# Altium footprint library Arduino_UNO_PCBlib.PcbLib: 27 footprints (part 1 of 2)
Each footprint in its own frame and in the unit in brackets; x right, y up, seen from the top. Pads: shape width x height; smd on the part's side, far side on the other; paste and mask are expansions set on the pad; w line width, h text height; cw(c..) or ccw(c..) is an arc to the next point about the centre after c.
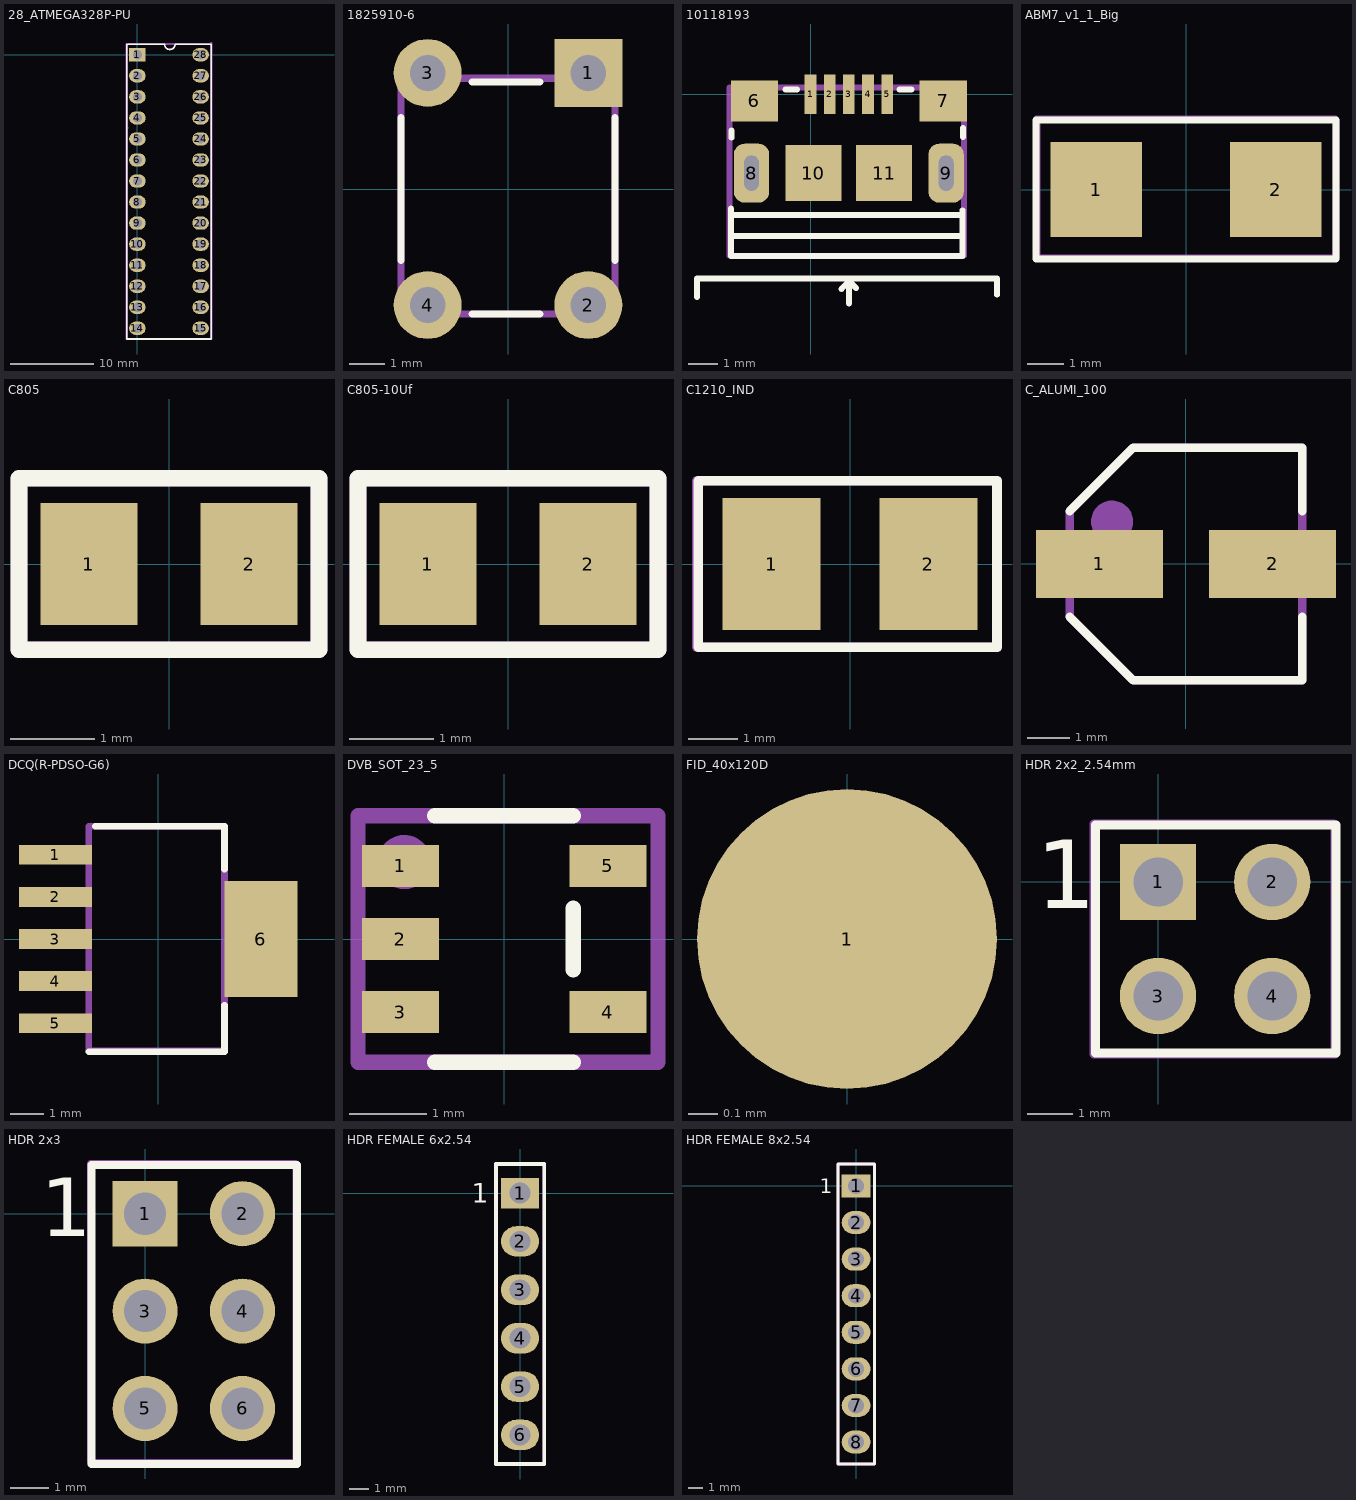
[diagram p0: the footprints below, top view; thin cyan lines are the x and y axes]

## 28_ATMEGA328P-PU [mm]
pads (28):
  rect 2x1.6 hole 1.1: 1(0,0)
  oval 2x1.6 hole 1.1: 2(0,-2.54) 3(0,-5.08) 4(0,-7.62) 5(0,-10.16) 6(0,-12.7) 7(0,-15.24) 8(0,-17.78) 9(0,-20.32) 10(0,-22.86) 11(0,-25.4) 12(0,-27.94) 13(0,-30.48) 14(0,-33.02) 15(7.62,-33.02) 16(7.62,-30.48) 17(7.62,-27.94) 18(7.62,-25.4) 19(7.62,-22.86) 20(7.62,-20.32) 21(7.62,-17.78) 22(7.62,-15.24) 23(7.62,-12.7) 24(7.62,-10.16) 25(7.62,-7.62) 26(7.62,-5.08) 27(7.62,-2.54) 28(7.62,0)
Top Overlay:
  lines w0.2: -1.29,1.27 -1.29,-34.31 8.91,-34.31 8.91,1.27 4.545,1.27 cw(c3.91,1.27) 3.275,1.27 -1.19,1.27
Mechanical 29:
  circle w0.5: c0.01,-0.01 r0.3
  lines w0.254: -1.29,-8.71 -1.19,-8.81 ; 8.91,1.29 8.91,-34.31 -1.29,-34.31 -1.29,1.29 8.81,1.29 8.91,1.39
  text ".Designator" at 3.91,-16.41 h1.52
3D body "User Library-28 pin dip-2.STEP": height 6.85, standoff 0.63, extent -0.127,-34.46 7.747,1.481

## 28_DIP_7.62mm_SOCKET [mm]
3D body "2445626_1-2199298-9.stp": height 5, standoff -3.1, extent -5,-17.805 5,17.755

## 1825910-6 [mm]
pads (4):
  rect 1.9x1.9 hole 1: 1(2.25,3.25)
  round 1.9 hole 1: 2(2.25,-3.25) 3(-2.25,3.25) 4(-2.25,-3.25)
Top Overlay:
  lines w0.2: -3,-2 -3,2 ; -1,-3.5 0.9,-3.5 ; -1,3 0.9,3 ; 3,-2 3,2
Mechanical 29:
  lines w0.2: -2.995,-3.5 2.995,-3.5 2.995,3.1 -2.995,3.1 -2.995,-3.5
  text "'.Designator'" at 0,-0.1 h1.52
3D body "User Library-FSM4JLH(1825910-5).step": height 5, standoff -3.51, extent -2.995,-3.998 2.995,3.8

## 10118193 [mm]
pads (11):
  rect 0.4x1.35 smd mask+0.05: 1(0,0) 2(0.65,0) 3(1.3,0) 4(1.95,0) 5(2.6,0)
  rect 1.6x1.4 smd: 6(-1.9,-0.225) 7(4.5,-0.225)
  rrect60% 1.2x2 hole 0.5 slot 1.2 at 90 deg: 8(-2,-2.675) 9(4.6,-2.675)
  rect 1.9x1.9 smd: 10(0.1,-2.675) 11(2.5,-2.675)
Top Overlay:
  lines w0.2: -3.85,-6.875 -3.85,-6.25 6.325,-6.25 6.325,-6.8 ; -2.7,-4.8 5.1,-4.8 ; -2.7,-4.1 5.132,-4.1 ; -2.7,-3.875 -2.7,-5.478 5.157,-5.478 5.157,-3.932 ; -2.675,-1.475 -2.675,-1.225 ; -0.85,0.161 -0.464,0.161 ; 1.05,-6.6 1.3,-6.35 1.3,-6.25 ; 1.3,-7.1 1.3,-6.25 ; 1.55,-6.575 1.3,-6.325 1.3,-6.25 ; 3.023,0.161 3.425,0.161 ; 5.175,-1.45 5.175,-1.15
Mechanical 29:
  lines w0.2: -2.75,-5.475 -2.75,0.225 5.2,0.225 5.2,-5.475 -2.75,-5.475
  text "'.Designator'" at -0.575,-3 h1.52
3D body "10118193-0001lfc.stp": height 2.81, standoff -0.79, extent -2.678,-5.5 5.178,0.161

## ABM7_v1_1_Big [mm]
pads (2):
  rect 2.5x2.6 smd: 1(-2.45,0) 2(2.45,0)
Top Overlay:
  lines w0.2: -4.1,-1.9 4.1,-1.9 4.1,1.9 -4.1,1.9 -4.1,-1.9
Mechanical 29:
  lines w0.2: -4.08,-1.85 -4.06,-1.87 4.06,-1.87 4.1,-1.83 4.1,1.91 4.08,1.93 -4.08,1.93 -4.08,-1.85
  text ".Designator" at -0.05,-0.02 h1.52
3D body "ABM7.STEP": height 1.41, standoff 0.01, extent -2.907,-1.762 3.087,1.743

## C805 [mm]
pads (2):
  rect 1.15x1.45 smd: 1(-0.95,0) 2(0.95,0)
Top Overlay:
  lines w0.2: -1.778,-1.016 1.778,-1.016 1.778,1.016 -1.778,1.016 -1.778,-1.016
Mechanical 29:
  lines w0.2: -1.778,-1.016 -1.778,1.016 1.778,1.016 1.778,-1.016 -1.778,-1.016
  text ".Designator" at -1.27,-0.254 h0.5
3D body "C0805C105K9PACTU--3DModel-STEP-267191.STEP": height 1.01, standoff 0.01, extent -1.1,-0.725 1.1,0.725

## C805-10Uf [mm]
pads (2):
  rect 1.15x1.45 smd: 1(-0.95,0) 2(0.95,0)
Top Overlay:
  lines w0.2: -1.778,-1.016 1.778,-1.016 1.778,1.016 -1.778,1.016 -1.778,-1.016
Mechanical 29:
  lines w0.2: -1.778,-1.016 -1.778,1.016 1.778,1.016 1.778,-1.016 -1.778,-1.016
  text ".Designator" at -1.27,-0.254 h0.5
3D body "CAPC2012X145N EIA 0805.step": height 1.21, standoff 0.01, extent -1,-0.725 1,0.725

## C1210_IND [mm]
pads (2):
  rect 2x2.7 smd: 1(-1.6,0) 2(1.6,0)
Top Overlay:
  lines w0.2: -3.1,-1.7 -3.1,-0.65 -3.1,1.7 3,1.7 3,-1.7 -3.1,-1.7
Mechanical 29:
  lines w0.2: -3.124,-1.7 -3.124,1.7 2.997,1.7 2.997,-1.7 -3.124,-1.7
  text "'.Designator'" at -0.025,0 h1.52
3D body "INDC3225X135N EIA 1210.step": height 1.36, standoff 0.01, extent -1.6,-1.25 1.6,1.25

## C_ALUMI_100 [mm]
pads (2):
  rect 3x1.6 smd: 1(-2.05,0) 2(2.05,0)
Top Overlay:
  lines w0.2: -2.75,-1.25 -1.25,-2.75 2.75,-2.75 2.75,-1.25 ; -2.75,1.25 -1.25,2.75 2.75,2.75 2.75,1.25
Mechanical 29:
  circle w0.5: c-1.75,1 r0.25
  lines w0.2: -2.75,-1.25 -1.25,-2.75 2.75,-2.75 2.75,2.75 -1.25,2.75 -2.75,1.25 -2.75,-1.25
  text "'.Designator'" at 0,0 h1.52
3D body "User Library-capacitor size C.step": height 5.42, standoff 0.01, extent -2.95,-2.65 2.95,2.65

## DCQ(R-PDSO-G6) [mm]
pads (6):
  rect 2.2x0.6 smd: 1(-3.1,2.54) 2(-3.1,1.27) 3(-3.1,0) 4(-3.1,-1.27) 5(-3.1,-2.54)
  rect 2.2x3.5 smd: 6(3.1,0)
Top Overlay:
  lines w0.2: -2.1,-3.4 2,-3.4 2,-2 ; -1.9,3.4 2,3.4 2,2.1
Mechanical 29:
  lines w0.2: -2.1,3.375 -2.1,-3.375 2,-3.375 2,3.4 -2.1,3.4
  text "'.Designator'" at -0.025,0.025 h1.52
3D body "User Library-TPS73701DCQ.step": height 1.75, standoff -0.05, extent -3.605,-3.275 3.655,3.275

## DVB_SOT_23_5 [mm]
pads (5):
  rect 1x0.55 smd: 1(-1.35,0.95) 2(-1.35,0) 3(-1.35,-0.95) 4(1.35,-0.95) 5(1.35,0.95)
Top Overlay:
  lines w0.2: -0.9,-1.6 0.9,-1.6 ; -0.9,1.6 0.9,1.6 ; 0.9,-0.4 0.9,0.4
Mechanical 29:
  circle w0.5: c-1.3,1 r0.1
  lines w0.2: -1.9,-1.6 2,-1.6 2,1.6 -1.9,1.6 -1.9,-1.6
  text "'.Designator'" at 0,0 h1.52
3D body "User Library-TPS79333DBVR.step": height 1.6, standoff -0.02, extent -1.513,-1.525 1.514,1.525

## FID_40x120D [mil]
pads (1):
  round 40 smd paste-40 mask+40: 1(0,0)

## HDR 2x2_2.54mm [mm]
pads (4):
  rect 1.7x1.7 hole 1.1: 1(0,0)
  round 1.7 hole 1.1: 2(2.54,0) 3(0,-2.54) 4(2.54,-2.54)
Top Overlay:
  lines w0.2: 0.635,1.27 3.962,1.27 3.962,-3.81 -1.397,-3.81 -1.397,1.27 1.905,1.27
  text "1" at -2.718,-0.584 h1.52
Mechanical 29:
  circle w0.5: c0,0.025 r0.193
  lines w0.2: -1.422,-3.835 -1.422,1.295 3.912,1.295 3.937,1.27 3.937,-3.835 -1.422,-3.835
  text ".Designator" at 1.346,-2.591 h1.52
3D body: height 1.75, standoff -1.75, extent 12.827,-0.889 12.827,-0.889
3D body "961204-6404-XX.stp": height 8.01, standoff -3.29, extent -1.27,-3.694 3.81,1.306

## HDR 2x3 [mm]
pads (6):
  rect 1.7x1.7 hole 1.1: 1(0,0)
  round 1.7 hole 1.1: 2(2.54,0) 3(0,-2.54) 4(2.54,-2.54) 5(0,-5.08) 6(2.54,-5.08)
Top Overlay:
  lines w0.2: 0.635,1.27 3.962,1.27 3.962,-6.528 -1.397,-6.528 -1.397,1.27 1.905,1.27
  text "1" at -2.718,-0.584 h1.52
Mechanical 29:
  circle w0.5: c0,0.025 r0.193
  lines w0.2: -1.422,-6.452 -1.372,-6.502 3.912,-6.502 3.937,-6.477 3.937,1.27 3.912,1.295 -1.422,1.295 -1.422,-6.452
  text ".Designator" at 1.346,-2.591 h1.52
3D body "User Library-2x3 TH Pitch 2_54mm.STEP": height 9.24, standoff -3.46, extent -1.245,-6.401 3.835,1.219
3D body: height 1.75, standoff -1.75, extent 12.827,-0.889 12.827,-0.889

## HDR FEMALE 6x2.54 [mm]
pads (6):
  rect 2x1.6 hole 1.1: 1(0,0)
  oval 2x1.6 hole 1.1: 2(0,-2.54) 3(0,-5.08) 4(0,-7.62) 5(0,-10.16) 6(0,-12.7)
Top Overlay:
  lines w0.2: -1.27,-14.224 -1.27,1.524 1.27,1.524 1.27,-14.224 -1.27,-14.224
  text "1" at -2.54,-0.508 h1.02
Mechanical 29:
  circle w0.5: c0,0 r0.254
  lines w0.2: -1.27,-14.224 1.27,-14.224 1.27,-1.016 1.27,1.524 -1.27,1.524 -1.27,-14.224
  text ".Designator" at 0.508,-13.208 h1.52
3D body "User Library-zl262-6s_p2-54_l15-74_w2-54_h8-5.step": height 8.5, standoff -3, extent -1.27,-14.22 1.27,1.52

## HDR FEMALE 8x2.54 [mm]
pads (8):
  rect 2x1.6 hole 1.1: 1(0,0)
  oval 2x1.6 hole 1.1: 2(0,-2.54) 3(0,-5.08) 4(0,-7.62) 5(0,-10.16) 6(0,-12.7) 7(0,-15.24) 8(0,-17.78)
Top Overlay:
  lines w0.2: -1.27,-19.304 -1.27,1.524 1.27,1.524 1.27,-19.304 -1.27,-19.304
  text "1" at -2.54,-0.508 h1.02
Mechanical 29:
  circle w0.5: c0,0 r0.254
  lines w0.2: -1.27,-19.304 1.27,-19.304 1.27,-1.016 1.27,1.524 -1.27,1.524 -1.27,-19.304
  text ".Designator" at 0.508,-18.796 h1.52
3D body "User Library-zl262-8s_p2-54_l20-82_w2-54_h8-5.step": height 8.5, standoff -3, extent -1.27,-19.3 1.27,1.52